# Altium schematic symbol library SPMWH1228MD5WAQUVK.SchLib: 2 symbols
Pins are listed as number, name and electrical type; pins without a type are passive.

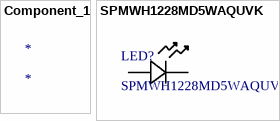
[diagram p0: symbols Component_1 to SPMWH1228MD5WAQUVK]

## Component_1
designator *

## SPMWH1228MD5WAQUVK
designator LED?
No Description Available; Mfr_Name: Samsung; Type: DEV; Copyright: Copyright (C) 2022 Ultra Librarian. All rights reserved.; Manufacturer_Part_Number: SPMWH1228MD5WAQUVK; Digi-Key_Part_Number_1: 1510-SPMWH1228MD5WAQUVKTR-ND; Digi-Key_Part_Number_2: 1510-SPMWH1228MD5WAQUVKCT-ND; Digi-Key_Part_Number_3: 1510-SPMWH1228MD5WAQUVKDKR-ND; RefDes: RefDes
footprint LED_SPMWH1228MD5WAQUVK_SAM
pins: 1, 2